# EAGLE library part HDMI (library custom-connectors)
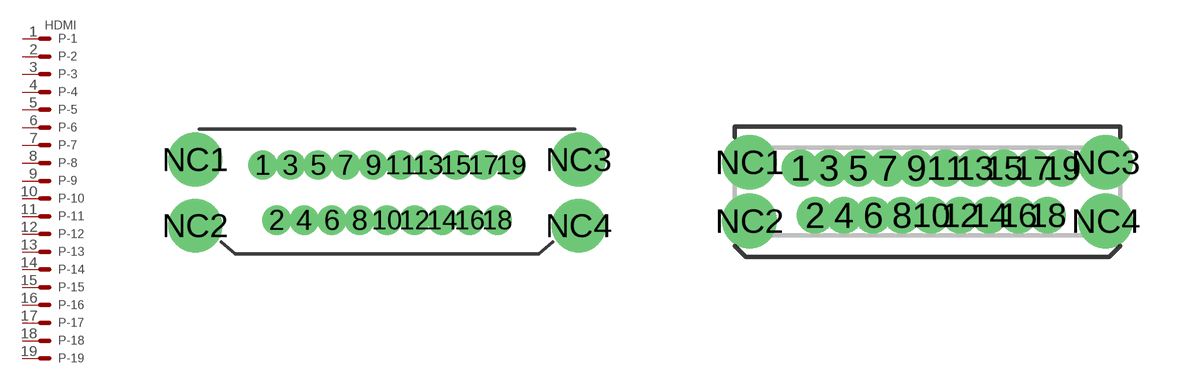
[diagram p17: symbol with the pads of HDMI_A; footprints HDMI_A, HDMI_C]

Designator prefix P; gates -1=MV -2=M -3=M -4=M -5=M -6=M -7=M -8=M -9=M -10=M -11=M -12=M -13=M -14=M -15=M -16=M -17=M -18=M -19=M

## HDMI_A  [HDMI_A]
1  -1:S  pas
2  -2:S  pas
3  -3:S  pas
4  -4:S  pas
5  -5:S  pas
6  -6:S  pas
7  -7:S  pas
8  -8:S  pas
9  -9:S  pas
10  -10:S  pas
11  -11:S  pas
12  -12:S  pas
13  -13:S  pas
14  -14:S  pas
15  -15:S  pas
16  -16:S  pas
17  -17:S  pas
18  -18:S  pas
19  -19:S  pas

## HDMI_MINI_C  [HDMI_C]
Pads as for HDMI_A

## Footprint HDMI_A (pad centres in mm)
drill 0.55 pad 0.85: 1 -4.5,1; 2 -4,-1; 3 -3.5,1; 4 -3,-1; 5 -2.5,1; 6 -2,-1; 7 -1.5,1; 8 -1,-1; 9 -0.5,1; 10 0,-1; 11 0.5,1; 12 1,-1; 13 1.5,1; 14 2,-1; 15 2.5,1; 16 3,-1; 17 3.5,1; 18 4,-1; 19 4.5,1
drill 1.3: NC1 -6.95,1.2; NC2 -6.95,-1.2; NC3 6.95,1.2; NC4 6.95,-1.2

## Footprint HDMI_C (pad centres in mm)
drill 0.508 pad 0.711: 1 -3.5,0.65; 3 -2.7,0.65
drill 0.5 pad 0.75: 2 -3.1,-0.65; 4 -2.3,-0.65; 5 -1.9,0.65; 6 -1.5,-0.65; 7 -1.1,0.65; 8 -0.7,-0.65; 9 -0.3,0.65; 10 0.1,-0.65; 11 0.5,0.65; 12 0.9,-0.65; 13 1.3,0.65; 14 1.7,-0.65; 15 2.1,0.65; 16 2.5,-0.65; 17 2.9,0.65; 18 3.3,-0.65; 19 3.7,0.65
drill 1 pad 1.4: NC1 -4.9,0.81; NC2 -4.9,-0.81; NC3 4.9,0.81; NC4 4.9,-0.81